# Altium schematic symbol library FC-135_32_7680KA-A5.SchLib: 1 symbol
Pins are listed as number, name and electrical type; pins without a type are passive.

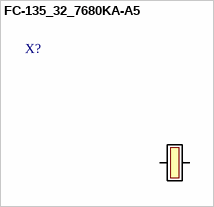
[diagram p0: symbol FC-135_32_7680KA-A5]

## FC-135_32_7680KA-A5
designator X?
FC-135_32_7680KA-A5
pins: 1, 2